# Altium footprint library switch-toggle.PcbLib: 1 footprints
Each footprint in its own frame and in the unit in brackets; x right, y up, seen from the top. Pads: shape width x height; smd on the part's side, far side on the other; paste and mask are expansions set on the pad; w line width, h text height; cw(c..) or ccw(c..) is an arc to the next point about the centre after c.
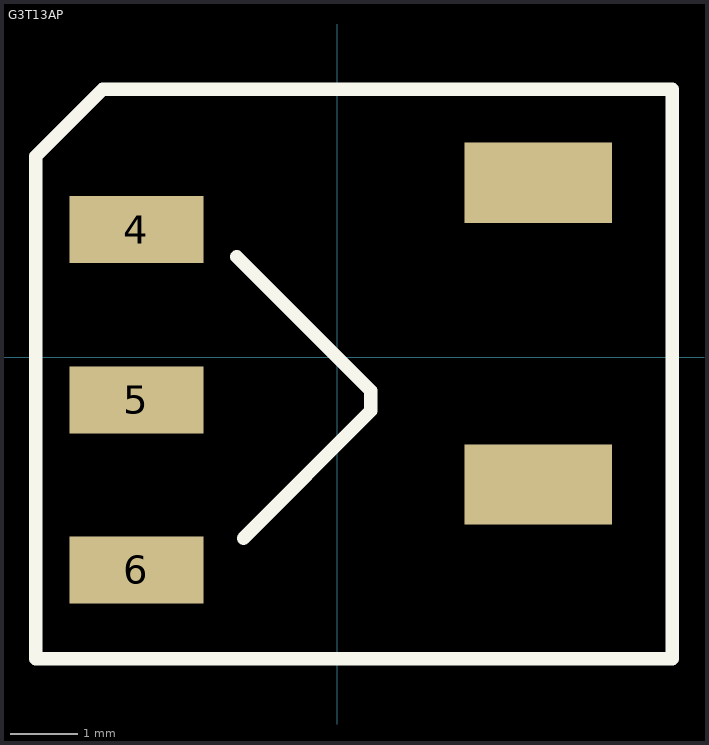
[diagram p0: the footprint, top view; thin cyan lines are the x and y axes]

## G3T13AP [mm]
pads (5):
  rect 2x1 smd: 4(-3,1.905) 5(-3,-0.635) 6(-3,-3.175)
  rect 2.2x1.2 smd: ""(3,-1.9) ""(3,2.605)
Top Overlay:
  lines w0.2: -1.5,1.5 0.5,-0.5 0.5,-0.8 -1.4,-2.7 ; -4.5,-4.5 5,-4.5 5,3.5 5,4 -3.5,4 -4.5,3 -4.5,-4.5